# Altium schematic symbol library Battery.SchLib: 2 symbols
Pins are listed as number, name and electrical type; pins without a type are passive.

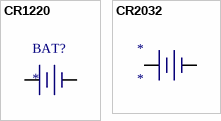
[diagram p0: symbols CR1220 to CR2032]

## CR1220
designator BAT?
footprint CR1220-A
pins: 1, 2

## CR2032
designator *
footprint CR2032-A
pins: 1, 2